# Altium footprint library WREL_AD10_Ben.PcbLib: 135 footprints (part 9 of 9)
Each footprint in its own frame and in the unit in brackets; x right, y up, seen from the top. Pads: shape width x height; smd on the part's side, far side on the other; paste and mask are expansions set on the pad; w line width, h text height; cw(c..) or ccw(c..) is an arc to the next point about the centre after c.
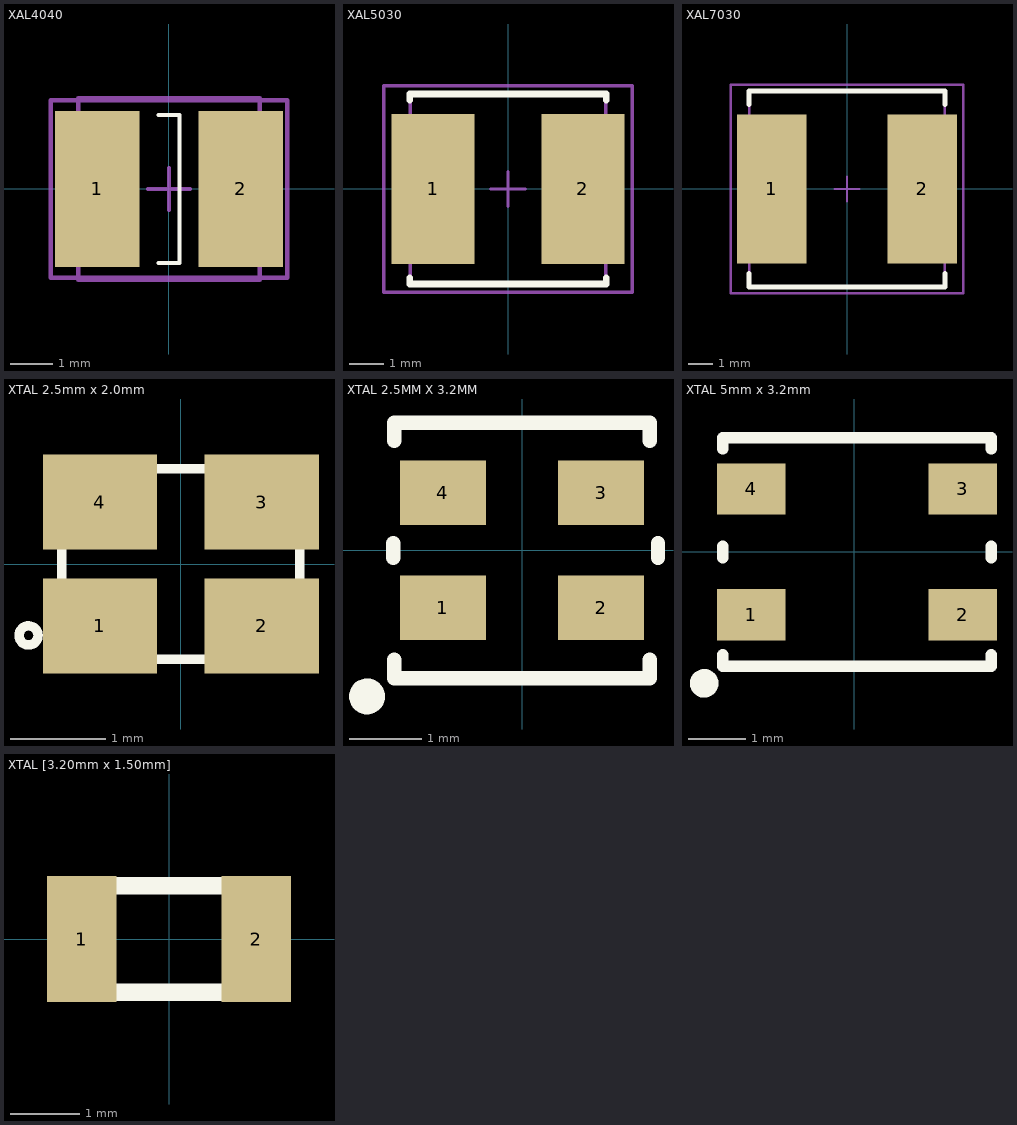
[diagram p8: the footprints below, top view; thin cyan lines are the x and y axes]

## XAL4040 [mm] "Fixed Inductors Power Inductor"
pads (2):
  rect 2x3.7 smd: 1(-1.7,0) 2(1.7,0)
Top Overlay:
  lines w0.1: -0.25,-1.75 0.25,-1.75 0.25,1.75 -0.25,1.75
Mechanical 13:
  lines w0.1: -2.15,-2.15 2.15,-2.15 2.15,2.15 -2.15,2.15 -2.15,-2.15
Mechanical 15:
  lines w0.1: -0.5,0 0.5,0 ; 0,-0.5 0,0.5 ; -2.8,-2.1 2.8,-2.1 2.8,2.1 -2.8,2.1 -2.8,-2.1
3D body: height 4.1, standoff 0, extent -2.15,-2.15 2.15,2.15

## XAL5030 [mm] "Fixed Inductors Power Inductor 3.3 uH 20 % 8.1 A"
height 3.1
pads (2):
  rect 2.4x4.35 smd: 1(-2.175,0) 2(2.175,0)
Top Overlay:
  lines w0.2: -2.85,-2.575 -2.85,-2.75 2.85,-2.75 2.85,-2.575 ; -2.85,2.575 -2.85,2.75 2.85,2.75 2.85,2.575
Mechanical 13:
  lines w0.1: -2.84,-2.74 2.84,-2.74 2.84,2.74 -2.84,2.74 -2.84,-2.74
Mechanical 15:
  lines w0.1: -0.5,0 0.5,0 ; 0,-0.5 0,0.5 ; -3.6,-3 3.6,-3 3.6,3 -3.6,3 -3.6,-3
3D body: height 3.1, standoff 0, extent -2.84,-2.74 2.84,2.74

## XAL7030 [mm] "Shielded Power Inductors"
height 3.1
pads (2):
  rect 2.85x6.1 smd: 1(-3.075,0) 2(3.075,0)
Top Overlay:
  lines w0.2: -4,-3.45 -4,-4 4,-4 4,-3.45 ; -4,3.45 -4,4 4,4 4,3.45
Mechanical 13:
  lines w0.1: -4,-4 4,-4 4,4 -4,4 -4,-4
Mechanical 15:
  lines w0.1: -0.5,0 0.5,0 ; 0,-0.5 0,0.5 ; -4.75,-4.25 4.75,-4.25 4.75,4.25 -4.75,4.25 -4.75,-4.25
3D body: height 3.1, standoff 0, extent -4,-4 4,4

## XTAL 2.5mm x 2.0mm [mm] "CRYSTAL, 2.5mm x 2.0mm,  4Pin"
height 0.85
pads (4):
  rect 1.2x1 smd: 1(-0.85,-0.65) 2(0.85,-0.65) 3(0.85,0.65) 4(-0.85,0.65)
Top Overlay:
  circle w0.1: c-1.6,-0.75 r0.1
  lines w0.1: -1.25,-1 1.25,-1 1.25,1 -1.25,1 -1.25,-1

## XTAL 2.5MM X 3.2MM [mm] "CRYSTAL, 2.5mm x 3.2mm"
height 0.762
pads (4):
  rect 1.2x0.9 smd: 1(-1.1,-0.8) 2(1.1,-0.8) 3(1.1,0.8) 4(-1.1,0.8)
Top Overlay:
  circle w0.25: c-2.157,-2.032 r0.125
  lines w0.2: -1.792,-0.1 -1.792,0.1 ; -1.778,-1.524 -1.778,-1.778 1.778,-1.778 1.778,-1.524 ; -1.778,1.524 -1.778,1.778 1.778,1.778 1.778,1.524 ; 1.892,-0.1 1.892,0.1

## XTAL 5mm x 3.2mm [mm] "CRYSTAL, 5mm x 3.2mm"
height 0.762
pads (4):
  rect 1.2x0.9 smd: 1(-1.8,-1.1) 2(1.9,-1.1) 3(1.9,1.1) 4(-1.8,1.1)
Top Overlay:
  circle w0.25: c-2.625,-2.3 r0.125
  lines w0.2: -2.3,-1.8 -2.3,-2 2.4,-2 2.4,-1.8 ; -2.3,-0.1 -2.3,0.1 ; -2.3,1.8 -2.3,2 2.4,2 2.4,1.8 ; 2.4,-0.1 2.4,0.1

## XTAL [3.20mm x 1.50mm] [mm] "FC-135   crystal - epson eletronics"
height 0.8
pads (2):
  rect 1x1.8 smd: 1(-1.25,0) 2(1.25,0)
Top Overlay:
  lines w0.254: -0.762,-0.762 0.762,-0.762 ; -0.762,0.762 0.762,0.762
3D body: height 0.8, standoff 0, extent -1.6,-0.749 1.6,0.749